# Altium footprint library 1301931424.PcbLib: 1 footprints
Each footprint in its own frame and in the unit in brackets; x right, y up, seen from the top. Pads: shape width x height; smd on the part's side, far side on the other; paste and mask are expansions set on the pad; w line width, h text height; cw(c..) or ccw(c..) is an arc to the next point about the centre after c.
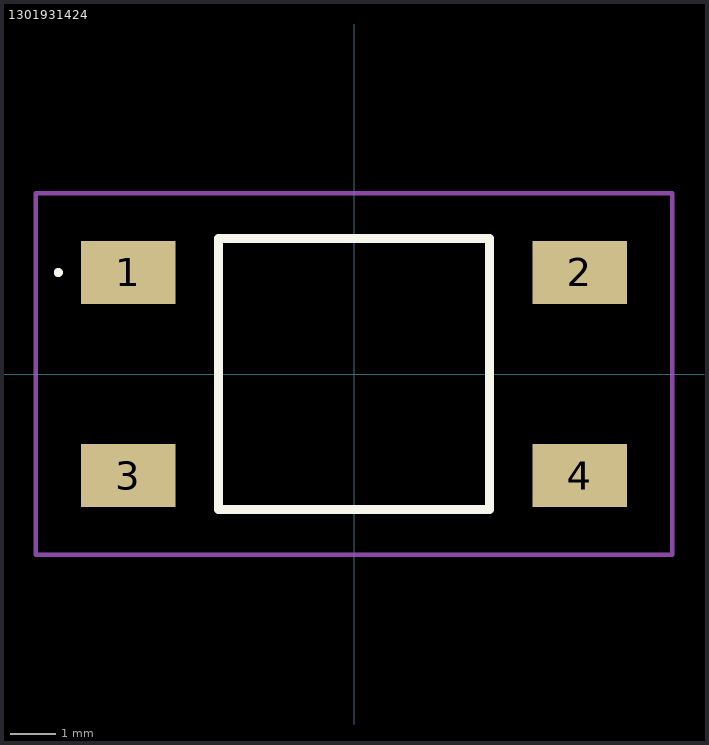
[diagram p0: the footprint, top view; thin cyan lines are the x and y axes]

## 1301931424 [mm]
pads (4):
  rect 2.1x1.4 smd: 1(-5,2.25) 2(5,2.25) 3(-5,-2.25) 4(5,-2.25)
Top Overlay:
  lines w0.1: -6.6,2.25 -6.6,2.25 ; -6.6,2.25 ccw(c-6.55,2.25) -6.5,2.25 ; -6.6,2.25 cw(c-6.55,2.25) -6.5,2.25 ; -6.5,2.25 -6.5,2.25
  lines w0.2: -3,-3 3,-3 3,3 -3,3 -3,-3
Mechanical 15:
  lines w0.1: -3,-3 3,-3 3,3 -3,3 -3,-3
Mechanical 20:
  lines w0.1: -7.05,-4 7.05,-4 7.05,4 -7.05,4 -7.05,-4